# Altium schematic symbol library SG_GOST_ADC_DAC.SchLib: 1 symbol
Pins are listed as number, name and electrical type; pins without a type are passive.

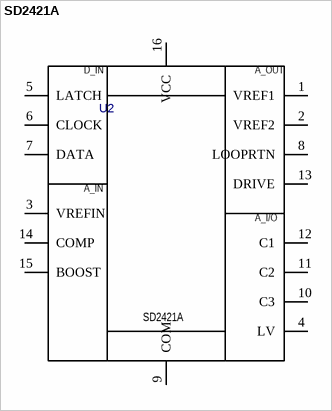
[diagram p0: symbol SD2421A]

## SD2421A
designator U2
Order: Микросхема SD2421A, SDIC, China; SerialNumber: SD2421A
footprint SO-16W
pins: 1 VREF1, 2 VREF2, 3 VREFIN, 4 LV, 5 LATCH, 6 CLOCK, 7 DATA, 8 LOOPRTN, 9 COM, 10 C3, 11 C2, 12 C1, 13 DRIVE, 14 COMP, 15 BOOST, 16 VCC
text: D_IN; A_OUT; A_IN; A_I/O